# Altium footprint library Fuses.PcbLib: 1 footprints
Each footprint in its own frame and in the unit in brackets; x right, y up, seen from the top. Pads: shape width x height; smd on the part's side, far side on the other; paste and mask are expansions set on the pad; w line width, h text height; cw(c..) or ccw(c..) is an arc to the next point about the centre after c.
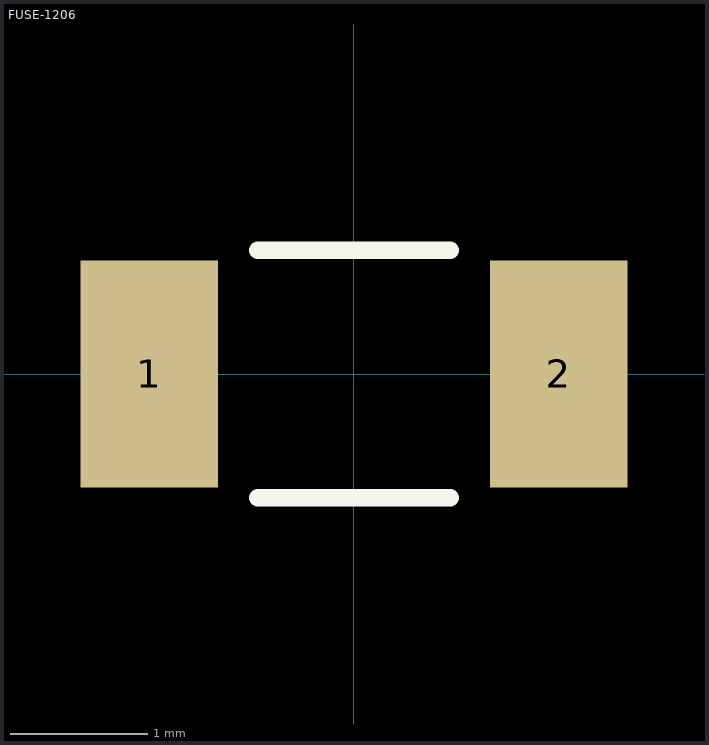
[diagram p0: the footprint, top view; thin cyan lines are the x and y axes]

## FUSE-1206 [mm] "FUSE-1206"
pads (2):
  rect 1x1.65 smd: 1(-1.49,0) 2(1.49,0)
Top Overlay:
  lines w0.125: -0.7,-0.9 0.7,-0.9 ; -0.7,0.9 0.7,0.9
3D body "Fuse Littelfuse 1206L150THWR.stp": height 0.82, standoff 0, extent -1.652,-0.815 1.652,0.815